# Altium schematic symbol library 1206_Resettable_Fuse.SchLib: 1 symbol
Pins are listed as number, name and electrical type; pins without a type are passive.

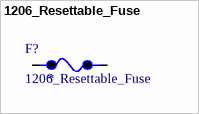
[diagram p0: symbol 1206_Resettable_Fuse]

## 1206_Resettable_Fuse
designator F?
1206 Resettable Fuses ROHS; LCSC: *
footprint 1206_Resettable_Fuse
pins: 1, 2